# Altium schematic symbol library Resisitor.SchLib: 2 symbols
Pins are listed as number, name and electrical type; pins without a type are passive.

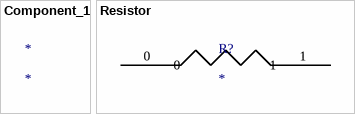
[diagram p0: symbols Component_1 to Resistor]

## Component_1
designator *

## Resistor
designator R?
pins: 0, 1